# Altium footprint library ACPL-T350.PcbLib: 1 footprints
Each footprint in its own frame and in the unit in brackets; x right, y up, seen from the top. Pads: shape width x height; smd on the part's side, far side on the other; paste and mask are expansions set on the pad; w line width, h text height; cw(c..) or ccw(c..) is an arc to the next point about the centre after c.
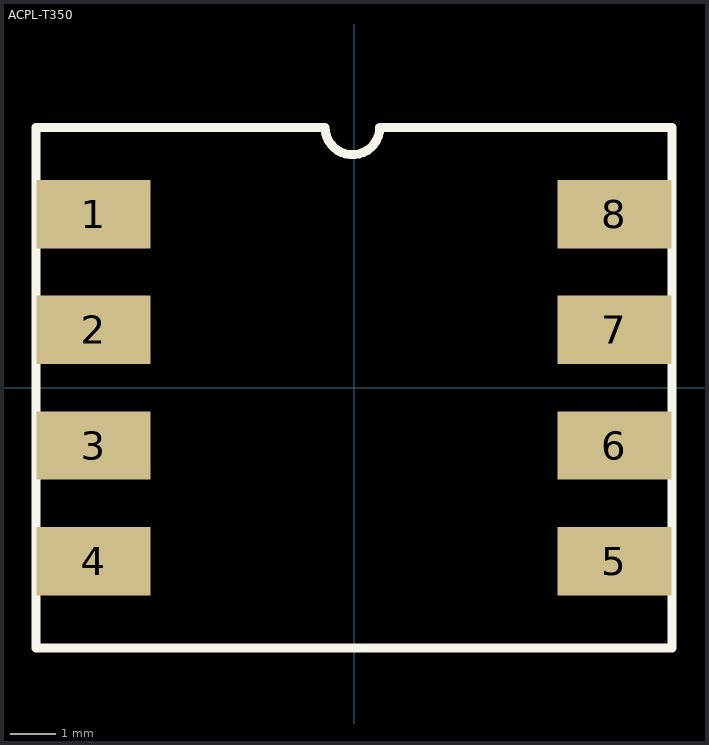
[diagram p0: the footprint, top view; thin cyan lines are the x and y axes]

## ACPL-T350 [mm]
pads (8):
  rect 2.5x1.5 smd: 1(-5.715,3.81) 2(-5.715,1.27) 3(-5.715,-1.27) 4(-5.715,-3.81) 5(5.715,-3.81) 6(5.715,-1.27) 7(5.715,1.27) 8(5.715,3.81)
Top Overlay:
  lines w0.2: 0.565,5.715 cw(c-0.035,5.715) -0.635,5.715 -6.985,5.715 -6.985,-5.715 6.985,-5.715 6.985,5.715 0.635,5.715
Top Assembly:
  lines w0.1: -0.635,5.715 -6.985,5.715 -6.985,-5.715 6.985,-5.715 6.985,5.715 0.635,5.715 ; -0.6,5.715 ccw(c0,5.715) 0.6,5.715
  text "'.Designator'" at -0.925,-0.35 h0.7
3D body "User Library-HCNR200_SMD.STEP": height 4.75, standoff 0, extent -6.15,-5.575 6.15,5.575